# Altium footprint library Pentagon.PcbLib: 17 footprints (part 1 of 2)
Each footprint in its own frame and in the unit in brackets; x right, y up, seen from the top. Pads: shape width x height; smd on the part's side, far side on the other; paste and mask are expansions set on the pad; w line width, h text height; cw(c..) or ccw(c..) is an arc to the next point about the centre after c.
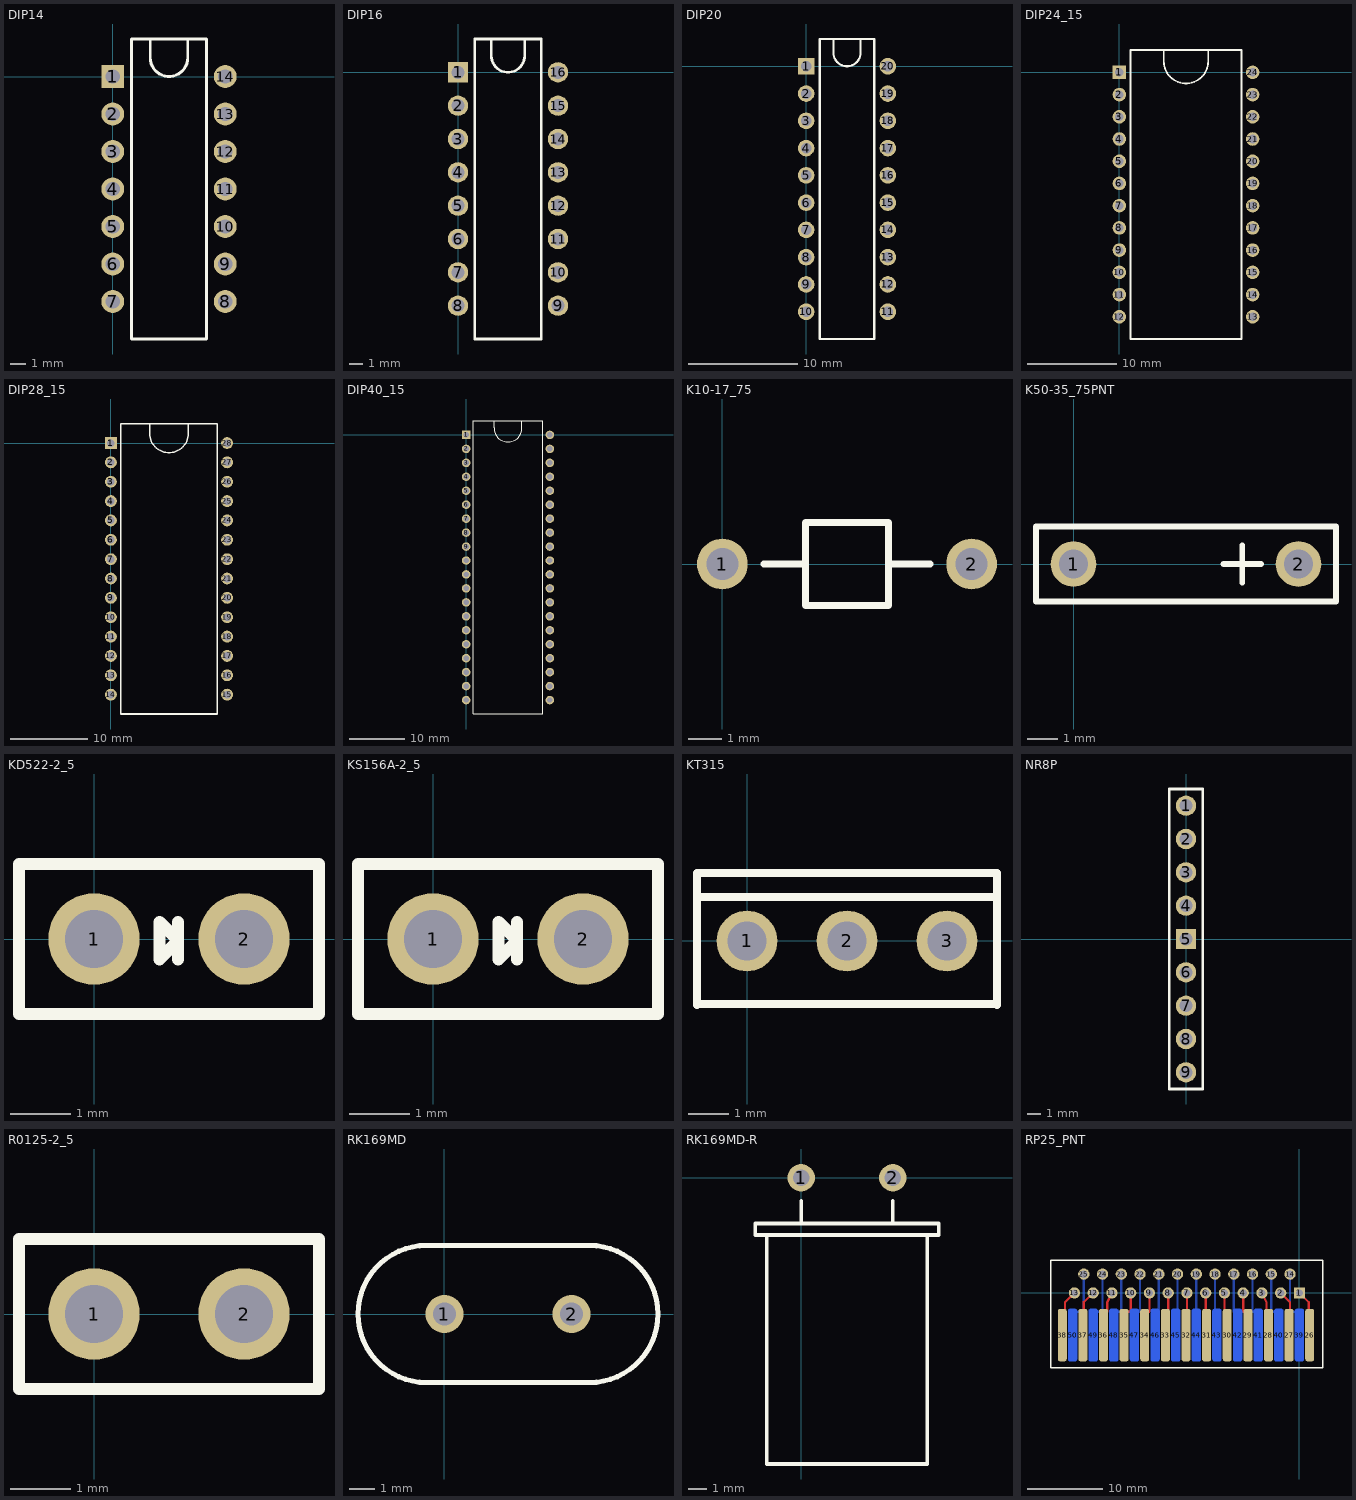
[diagram p0: the footprints below, top view; thin cyan lines are the x and y axes]

## DIP14 [mil]
pads (14):
  rect 60x60 hole 38: 1(0,0)
  round 60 hole 38: 2(0,-98.43) 3(0,-196.85) 4(0,-295.28) 5(0,-393.7) 6(0,-492.13) 7(0,-590.55) 8(295.28,-590.55) 9(295.28,-492.13) 10(295.28,-393.7) 11(295.28,-295.28) 12(295.28,-196.85) 13(295.28,-98.43) 14(295.28,0)
Top Overlay:
  lines w7.87: 98.43,98.43 98.43,49.21 ccw(c147.64,49.21) 196.85,49.21 196.85,98.43 ; 49.21,-688.98 246.06,-688.98 246.06,98.43 49.21,98.43 49.21,-688.98

## DIP16 [mil]
pads (16):
  rect 60x60 hole 38: 1(0,0)
  round 60 hole 38: 2(0,-98.43) 3(0,-196.85) 4(0,-295.28) 5(0,-393.7) 6(0,-492.13) 7(0,-590.55) 8(0,-688.98) 9(295.28,-688.98) 10(295.28,-590.55) 11(295.28,-492.13) 12(295.28,-393.7) 13(295.28,-295.28) 14(295.28,-196.85) 15(295.28,-98.43) 16(295.28,0)
Top Overlay:
  lines w7.87: 98.43,98.43 98.43,49.21 ccw(c147.64,49.21) 196.85,49.21 196.85,98.43 ; 49.21,-787.4 246.06,-787.4 246.06,98.43 49.21,98.43 49.21,-787.4

## DIP20 [mil]
pads (20):
  rect 60x60 hole 38: 1(0,0)
  round 60 hole 38: 2(0,-98.43) 3(0,-196.85) 4(0,-295.28) 5(0,-393.7) 6(0,-492.13) 7(0,-590.55) 8(0,-688.98) 9(0,-787.4) 10(0,-885.83) 11(295.28,-885.83) 12(295.28,-787.4) 13(295.28,-688.98) 14(295.28,-590.55) 15(295.28,-492.13) 16(295.28,-393.7) 17(295.28,-295.28) 18(295.28,-196.85) 19(295.28,-98.43) 20(295.28,0)
Top Overlay:
  lines w7.87: 98.43,98.43 98.43,49.21 ccw(c147.64,49.21) 196.85,49.21 196.85,98.43 ; 49.21,-984.25 246.06,-984.25 246.06,98.43 49.21,98.43 49.21,-984.25

## DIP24_15 [mil]
pads (24):
  rect 60x60 hole 38: 1(0,0)
  round 60 hole 38: 2(0,-98.43) 3(0,-196.85) 4(0,-295.28) 5(0,-393.7) 6(0,-492.13) 7(0,-590.55) 8(0,-688.98) 9(0,-787.4) 10(0,-885.83) 11(0,-984.25) 12(0,-1082.68) 13(590.55,-1082.68) 14(590.55,-984.25) 15(590.55,-885.83) 16(590.55,-787.4) 17(590.55,-688.98) 18(590.55,-590.55) 19(590.55,-492.13) 20(590.55,-393.7) 21(590.55,-295.28) 22(590.55,-196.85) 23(590.55,-98.43) 24(590.55,0)
Top Overlay:
  lines w7.87: 196.85,98.43 196.85,49.21 ccw(c295.28,49.21) 393.7,49.21 393.7,98.43 ; 49.21,-1181.1 541.34,-1181.1 541.34,98.43 49.21,98.43 49.21,-1181.1

## DIP28_15 [mil]
pads (28):
  rect 60x60 hole 38: 1(0,0)
  round 60 hole 38: 2(0,-98.43) 3(0,-196.85) 4(0,-295.28) 5(0,-393.7) 6(0,-492.13) 7(0,-590.55) 8(0,-688.98) 9(0,-787.4) 10(0,-885.83) 11(0,-984.25) 12(0,-1082.68) 13(0,-1181.1) 14(0,-1279.53) 15(590.55,-1279.53) 16(590.55,-1181.1) 17(590.55,-1082.68) 18(590.55,-984.25) 19(590.55,-885.83) 20(590.55,-787.4) 21(590.55,-688.98) 22(590.55,-590.55) 23(590.55,-492.13) 24(590.55,-393.7) 25(590.55,-295.28) 26(590.55,-196.85) 27(590.55,-98.43) 28(590.55,0)
Top Overlay:
  lines w7.87: 196.85,98.43 196.85,49.21 ccw(c295.28,49.21) 393.7,49.21 393.7,98.43 ; 49.21,-1377.95 541.34,-1377.95 541.34,98.43 49.21,98.43 49.21,-1377.95

## DIP40_15 [mil]
pads (40):
  rect 60x60 hole 38: 1(0,0)
  round 60 hole 38: 2(0,-98.43) 3(0,-196.85) 4(0,-295.28) 5(0,-393.7) 6(0,-492.13) 7(0,-590.55) 8(0,-688.98) 9(0,-787.4) 10(0,-885.83) 11(0,-984.25) 12(0,-1082.68) 13(0,-1181.1) 14(0,-1279.53) 15(0,-1377.95) 16(0,-1476.38) 17(0,-1574.8) 18(0,-1673.23) 19(0,-1771.65) 20(0,-1870.08) 21(590.55,-1870.08) 22(590.55,-1771.65) 23(590.55,-1673.23) 24(590.55,-1574.8) 25(590.55,-1476.38) 26(590.55,-1377.95) 27(590.55,-1279.53) 28(590.55,-1181.1) 29(590.55,-1082.68) 30(590.55,-984.25) 31(590.55,-885.83) 32(590.55,-787.4) 33(590.55,-688.98) 34(590.55,-590.55) 35(590.55,-492.13) 36(590.55,-393.7) 37(590.55,-295.28) 38(590.55,-196.85) 39(590.55,-98.43) 40(590.55,0)
Top Overlay:
  lines w7.87: 196.85,98.43 196.85,49.21 ccw(c295.28,49.21) 393.7,49.21 393.7,98.43 ; 49.21,-1968.5 541.34,-1968.5 541.34,98.43 49.21,98.43 49.21,-1968.5

## K10-17_75 [mil]
pads (2):
  round 60 hole 38: 1(0,0) 2(295.28,0)
Top Overlay:
  lines w7.87: 49.21,0 98.43,0 ; 196.85,0 246.06,0 ; 98.43,-49.21 196.85,-49.21 196.85,49.21 98.43,49.21 98.43,-49.21

## K50-35_75PNT [mil]
pads (2):
  round 60 hole 38: 1(0,0) 2(295.28,0)
Top Overlay:
  lines w7.87: 196.85,0 246.06,0 ; 221.46,-24.61 221.46,24.61 ; -49.21,-49.21 344.49,-49.21 344.49,49.21 -49.21,49.21 -49.21,-49.21

## KD522-2_5 [mil]
pads (2):
  round 60 hole 38: 1(0,0) 2(98.43,0)
Top Overlay:
  lines w7.87: 55.28,-13.35 55.28,11.3 ; -49.21,-49.21 147.64,-49.21 147.64,49.21 -49.21,49.21 -49.21,-49.21 ; 42.95,-13.35 55.28,-1.02 42.95,11.3 42.95,-13.35

## KS156A-2_5 [mil]
pads (2):
  round 60 hole 38: 1(0,0) 2(98.43,0)
Top Overlay:
  lines w7.87: 55.28,-13.35 55.28,11.3 ; -49.21,-49.21 147.64,-49.21 147.64,49.21 -49.21,49.21 -49.21,-49.21 ; 42.95,-13.35 55.28,-1.02 42.95,11.3 42.95,-13.35

## KT315 [mil]
pads (3):
  round 60 hole 38: 1(0,0) 2(98.43,0) 3(196.85,0)
Top Overlay:
  lines w7.87: -49.21,-62.99 -49.21,66.93 246.06,66.93 246.06,-62.99 ; -49.21,-62.01 246.06,-62.01 ; -49.21,43.31 246.06,43.31

## NR8P [mil]
pads (9):
  round 60 hole 38: 1(0,393.7) 2(0,295.28) 3(0,196.85) 4(0,98.43) 6(0,-98.43) 7(0,-196.85) 8(0,-295.28) 9(0,-393.7)
  rect 60x60 hole 38: 5(0,0)
Top Overlay:
  lines w7.87: -49.21,-442.91 49.21,-442.91 49.21,442.91 0,442.91 -49.21,442.91 -49.21,-49.21 -49.21,-442.91

## R0125-2_5 [mil]
pads (2):
  round 60 hole 38: 1(0,0) 2(98.43,0)
Top Overlay:
  lines w7.87: -49.21,-49.21 147.64,-49.21 147.64,49.21 -49.21,49.21 -49.21,-49.21

## RK169MD [mm]
pads (2):
  round 1.5 hole 0.9: 1(0,0) 2(5,0)
Top Overlay:
  lines w0.2: -0.7,-2.7 cw(c-0.7,0) -0.7,2.7 5.7,2.7 cw(c5.7,0) 5.7,-2.7 -0.7,-2.7

## RK169MD-R [mm]
pads (2):
  round 1.5 hole 0.9: 1(0,0) 2(5,0)
Top Overlay:
  lines w0.2: -1.875,-3.125 -1.875,-15.625 6.875,-15.625 6.875,-3.125 ; 0,-2.5 0,-1.25 ; 5,-2.5 5,-1.25 ; -2.5,-3.125 7.5,-3.125 7.5,-2.5 -2.5,-2.5 -2.5,-3.125

## RP25_PNT [mm]
pads (50):
  rect 1.5x1.5 hole 0.965: 1(0,0)
  round 1.5 hole 0.965: 2(-2.5,0) 3(-5,0) 4(-7.5,0) 5(-10,0) 6(-12.5,0) 7(-15,0) 8(-17.5,0) 9(-20,0) 10(-22.5,0) 11(-25,0) 12(-27.5,0) 13(-30,0) 14(-1.25,2.5) 15(-3.75,2.5) 16(-6.25,2.5) 17(-8.75,2.5) 18(-11.25,2.5) 19(-13.75,2.5) 20(-16.25,2.5) 21(-18.75,2.5) 22(-21.25,2.5) 23(-23.75,2.5) 24(-26.25,2.5) 25(-28.75,2.5)
  rrect50% 1.2x7 smd: 26(1.375,-5.625) 27(-1.375,-5.625) 28(-4.125,-5.625) 29(-6.875,-5.625) 30(-9.625,-5.625) 31(-12.375,-5.625) 32(-15.125,-5.625) 33(-17.875,-5.625) 34(-20.625,-5.625) 35(-23.375,-5.625) 36(-26.125,-5.625) 37(-28.875,-5.625) 38(-31.625,-5.625)
  rrect50% 1.2x7 smd far side: 39(0,-5.625) 40(-2.75,-5.625) 41(-5.5,-5.625) 42(-8.25,-5.625) 43(-11,-5.625) 44(-13.75,-5.625) 45(-16.5,-5.625) 46(-19.25,-5.625) 47(-22,-5.625) 48(-24.75,-5.625) 49(-27.5,-5.625) 50(-30.25,-5.625)
Top Layer:
  lines w0.3: -31.25,-2.5 -31.25,-1.25 -30,0 ; -28.75,-2.5 -28.75,-1.25 -27.5,0 ; -25.625,-2.5 -25.625,-1.25 -25,0 ; -23.125,-2.5 -22.5,-2.5 -22.5,0 ; -20.625,-2.5 -20,-2.5 -20,0 ; -17.5,-2.5 -17.5,0 ; -15,-2.5 -15,0 ; -12.5,-2.5 -12.5,0 ; -10,-2.5 -10,0 ; -7.5,0 -7.5,-2.5 ; -5,0 -4.375,-1.25 -4.375,-2.5 ; -2.5,0 -1.25,-1.25 -1.25,-2.5 ; 0,0 1.25,-1.25 1.25,-2.5 ; -7.5,-2.5 -6.875,-2.5 -7.5,-2.5
Bottom Layer:
  lines w0.3: -30,-2.5 -28.75,-2.5 -28.75,2.5 ; -27.5,-2.5 -26.25,-2.5 -26.25,2.5 ; -24.375,-2.5 -23.75,-2.5 -23.75,2.5 ; -21.875,-2.5 -21.25,-2.5 -21.25,2.5 ; -18.75,-2.5 -18.75,2.5 ; -16.25,-2.5 -16.25,2.5 ; -13.75,-2.5 -13.75,2.5 ; -11.25,-2.5 -11.25,2.5 ; -8.75,-2.5 -8.75,2.5 ; -6.25,2.5 -6.25,-2.5 -5.625,-2.5 ; -3.75,2.5 -3.75,-2.5 -3.125,-2.5 ; -1.25,2.5 -1.25,-2.5 0,-2.5
Top Overlay:
  lines w0.2: -33.125,-10 3.125,-10 3.125,4.375 -33.125,4.375 -33.125,-10